# Altium footprint library Res_Vishay_CW010R7100KE733_eec_0.PcbLib: 1 footprints
Each footprint in its own frame and in the unit in brackets; x right, y up, seen from the top. Pads: shape width x height; smd on the part's side, far side on the other; paste and mask are expansions set on the pad; w line width, h text height; cw(c..) or ccw(c..) is an arc to the next point about the centre after c.
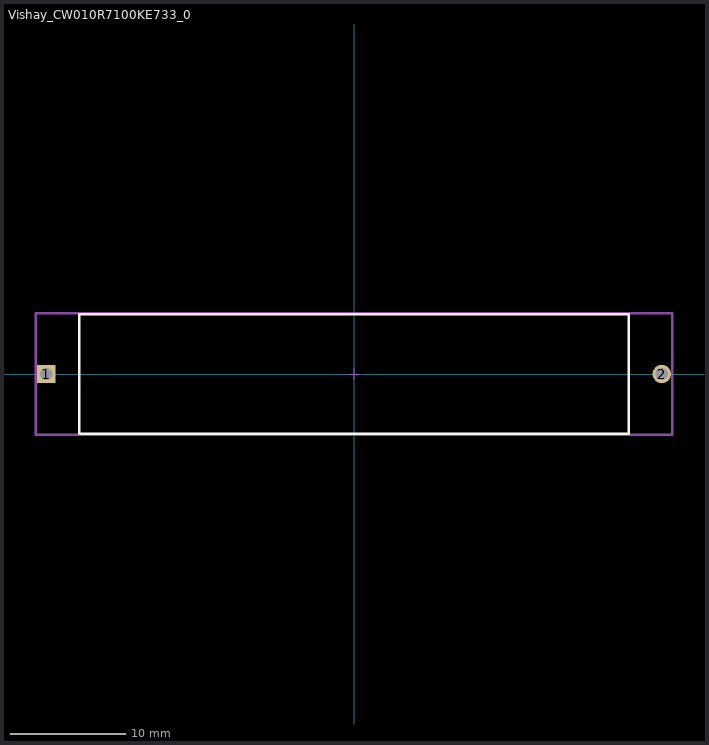
[diagram p0: the footprint, top view; thin cyan lines are the x and y axes]

## Vishay_CW010R7100KE733_0 [mm]
pads (2):
  rect 1.6x1.6 hole 1.05 paste-1000 mask+0: 1(-26.661,0)
  round 1.6 hole 1.05 paste-1000 mask+0: 2(26.661,0)
Top Overlay:
  lines w0.2: -23.81,-5.166 23.81,-5.166 23.81,5.166 -23.81,5.166 -23.81,-5.166
Mechanical 10:
  lines w0.2: -27.561,-5.266 27.561,-5.266 27.561,5.266 -27.561,5.266 -27.561,-5.266
  text ".Designator" at 0,0 h1
Mechanical 12:
  lines w0.15: -23.81,-5.166 23.81,-5.166 23.81,5.166 -23.81,5.166 -23.81,-5.166
Mechanical 15:
  lines w0.1: -0.5,0 0.5,0 ; 0,-0.5 0,0.5
  lines w0.2: -27.561,-5.266 27.561,-5.266 27.561,5.266 -27.561,5.266 -27.561,-5.266
3D body "Res_Vishay_CW010R7100KE733_eec.STEP": height 0.25, standoff 0, extent -27.561,-5.266 27.561,5.266